# Altium footprint library capacitors_mllc.PcbLib: 4 footprints
Each footprint in its own frame and in the unit in brackets; x right, y up, seen from the top. Pads: shape width x height; smd on the part's side, far side on the other; paste and mask are expansions set on the pad; w line width, h text height; cw(c..) or ccw(c..) is an arc to the next point about the centre after c.
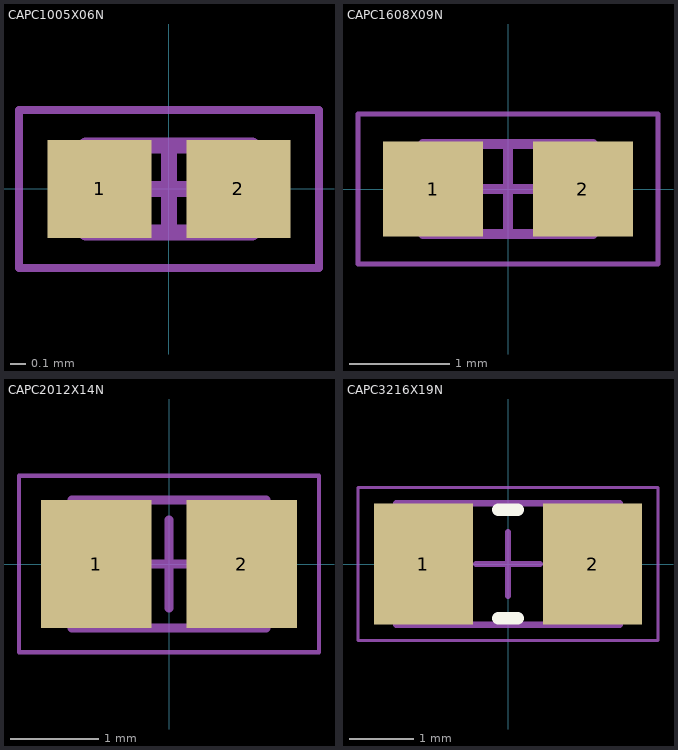
[diagram p0: the footprints below, top view; thin cyan lines are the x and y axes]

## CAPC1005X06N [mm] "Chip Capacitor, 2-Leads, Body 1,00x0,50mm, IPC Medium Density"
height 0.55
pads (2):
  rect 0.66x0.62 smd: 1(-0.44,0) 2(0.44,0)
Mechanical 13:
  lines w0.1: -0.525,-0.275 -0.525,0.275 0.525,0.275 0.525,-0.275 -0.525,-0.275
Mechanical 15:
  lines w0.05: -0.95,-0.5 -0.95,0.5 0.95,0.5 0.95,-0.5 -0.95,-0.5
  lines w0.1: -0.275,0 0.275,0 ; 0,-0.275 0,0.275
3D body "CAPC1005X06N.step": height 0.55, standoff 0, extent -0.525,-0.275 0.525,0.275

## CAPC1608X09N [mm] "Chip Capacitor, 2-Leads, Body 1,60x0,80mm, IPC Medium Density"
height 0.9
pads (2):
  rect 1x0.95 smd: 1(-0.75,0) 2(0.75,0)
Mechanical 13:
  lines w0.1: -0.85,-0.45 0.85,-0.45 0.85,0.45 -0.85,0.45 -0.85,-0.45
Mechanical 15:
  lines w0.05: -1.5,-0.75 1.5,-0.75 1.5,0.75 -1.5,0.75 -1.5,-0.75
  lines w0.1: -0.45,0 0.45,0 ; 0,-0.45 0,0.45
3D body "CAPC1608X09N.step": height 0.9, standoff 0, extent -0.85,-0.45 0.85,0.45

## CAPC2012X14N [mm] "Chip Capacitor, 2-Leads, Body 2,00x1,25mm, IPC Medium Density"
height 1.45
pads (2):
  rect 1.25x1.45 smd: 1(-0.825,0) 2(0.825,0)
Mechanical 13:
  lines w0.1: -1.1,-0.725 1.1,-0.725 1.1,0.725 -1.1,0.725 -1.1,-0.725
Mechanical 15:
  lines w0.05: -1.7,-1 1.7,-1 1.7,1 -1.7,1 -1.7,-1
  lines w0.1: -0.5,0 0.5,0 ; 0,-0.5 0,0.5
3D body "CAPC2012X14N.step": height 1.45, standoff 0, extent -1.1,-0.725 1.1,0.725

## CAPC3216X19N [mm] "Chip Capacitor, 2-Leads, Body 3,20x1,60mm, IPC Medium Density"
height 1.9
pads (2):
  rect 1.55x1.9 smd: 1(-1.325,0) 2(1.325,0)
Top Overlay:
  lines w0.2: -0.15,-0.85 0.15,-0.85 ; -0.15,0.85 0.15,0.85
Mechanical 13:
  lines w0.1: -1.75,-0.95 1.75,-0.95 1.75,0.95 -1.75,0.95 -1.75,-0.95
Mechanical 15:
  lines w0.05: -2.35,-1.2 2.35,-1.2 2.35,1.2 -2.35,1.2 -2.35,-1.2
  lines w0.1: -0.5,0 0.5,0 ; 0,-0.5 0,0.5
3D body "CAPC3216X19N.step": height 1.9, standoff 0, extent -1.75,-0.95 1.75,0.95